# EAGLE library part ATLAS_STAMP (library LEDscape)
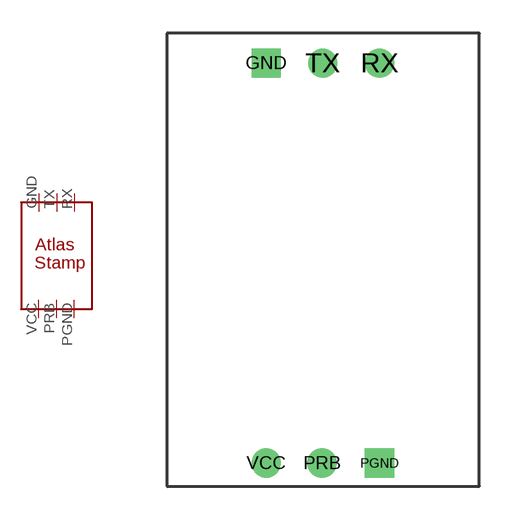
[diagram p2: symbol with the pads of ATLAS_STAMP; footprint ATLAS_STAMP]

Designator prefix -

## ATLAS_STAMP  [ATLAS_STAMP]
GND  GND
PGND  PGND
PRB  PRB
RX  RX
TX  TX
VCC  VCC

## Footprint ATLAS_STAMP (pad centres in mm)
drill 0.8 square: GND 4.445,18.97; PGND 9.525,1.03
drill 0.8: PRB 6.95,1.03; RX 9.525,18.97; TX 6.985,18.97; VCC 4.445,1.03